# EAGLE library part DIP_SWITCH-X4 (library pmon_uno)
Surface Mount DIP Switch Series 219 SMT CTS Electronic Components Sourc: www.ctscorp.com
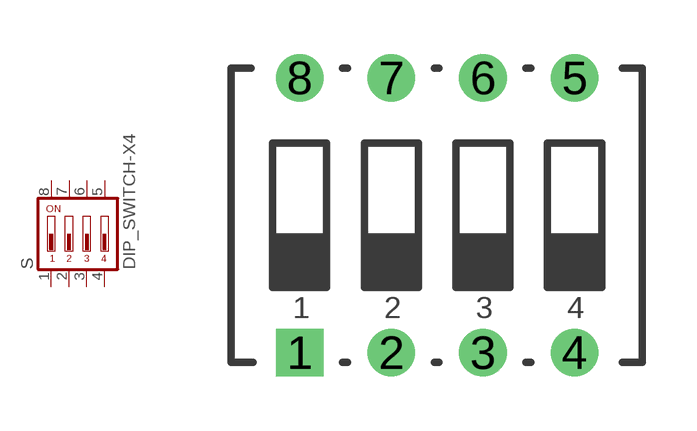
[diagram p1: symbol with the pads of DIP-SWITCH-X4; footprint DIP-SWITCH-X4]

Designator prefix S

## DIP_SWITCH-X4  [DIP-SWITCH-X4]
1  1  pas
2  2  pas
3  3  pas
4  4  pas
5  5  pas
6  6  pas
7  7  pas
8  8  pas

## Footprint DIP-SWITCH-X4 (pad centres in mm)
Dip switch BPA04B / Digikey CKN6140-ND
drill 0.813 square: 1 0,0
drill 0.813: 2 2.54,0; 3 5.08,0; 4 7.62,0; 5 7.62,7.62; 6 5.08,7.62; 7 2.54,7.62; 8 0,7.62